# EAGLE library part MC33772B (library MC33772B)
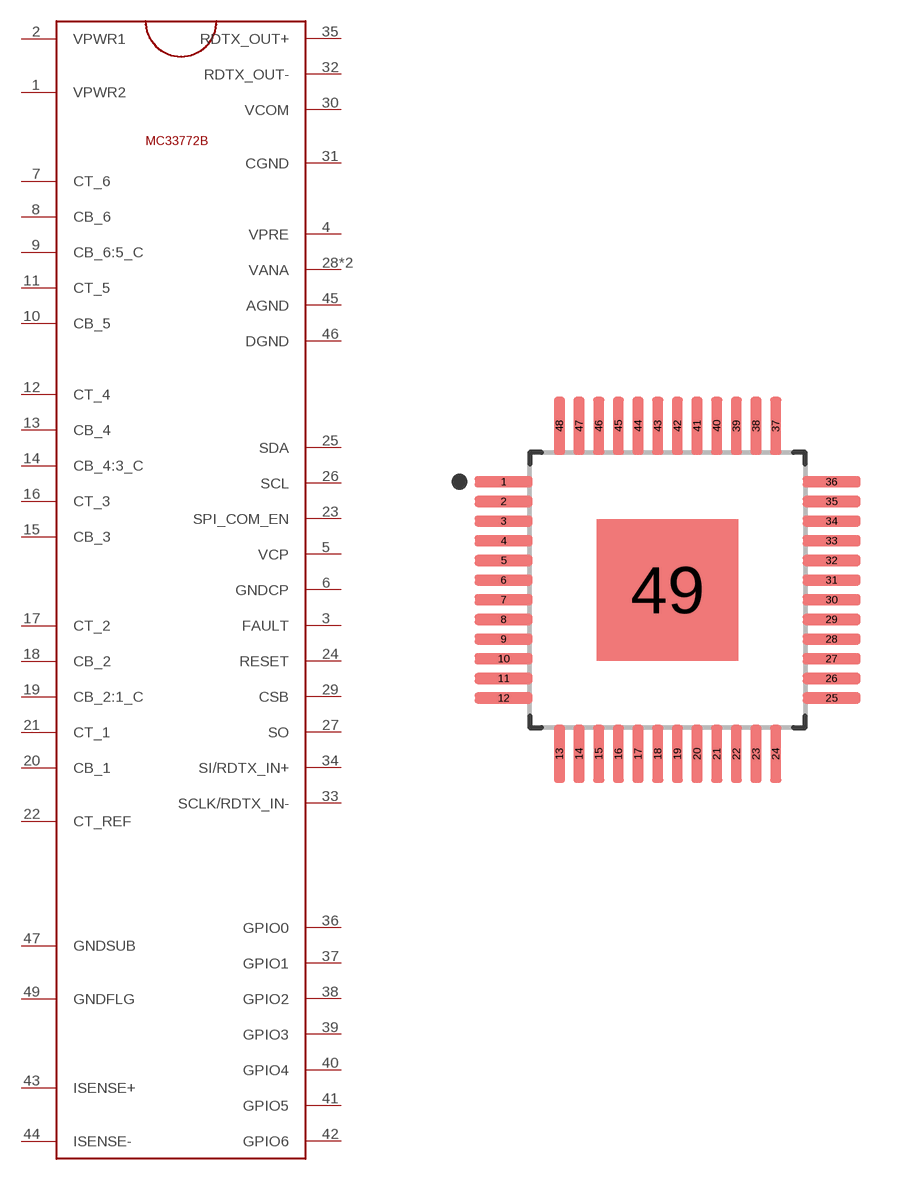
[diagram p0: symbol with the pads of QFP48P50_900X900X160L60X22N; footprint QFP48P50_900X900X160L60X22N]

Designator prefix -

## MC33772BSMD  [QFP48P50_900X900X160L60X22N]
1  VPWR2
2  VPWR1
3  FAULT
4  VPRE
5  VCP
6  GNDCP
7  CT_6
8  CB_6
9  CB_6:5_C
10  CB_5
11  CT_5
12  CT_4
13  CB_4
14  CB_4:3_C
15  CB_3
16  CT_3
17  CT_2
18  CB_2
19  CB_2:1_C
20  CB_1
21  CT_1
22  CT_REF
23  SPI_COM_EN
24  RESET
25  SDA
26  SCL
27  SO
28  VANA
29  CSB
30  VCOM
31  CGND
32  RDTX_OUT-
33  SCLK/RDTX_IN-
34  SI/RDTX_IN+
35  RDTX_OUT+
36  GPIO0
37  GPIO1
38  GPIO2
39  GPIO3
40  GPIO4
41  GPIO5
42  GPIO6
43  ISENSE+
44  ISENSE-
45  AGND
46  DGND
47  GNDSUB
48  VANA
49  GNDFLG

## Footprint QFP48P50_900X900X160L60X22N (pad centres in mm)
smd 1.47 x 0.28: 1 -4.17,2.75; 2 -4.17,2.25; 3 -4.17,1.75; 4 -4.17,1.25; 5 -4.17,0.75; 6 -4.17,0.25; 7 -4.17,-0.25; 8 -4.17,-0.75; 9 -4.17,-1.25; 10 -4.17,-1.75; 11 -4.17,-2.25; 12 -4.17,-2.75; 25 4.17,-2.75; 26 4.17,-2.25; 27 4.17,-1.75; 28 4.17,-1.25; 29 4.17,-0.75; 30 4.17,-0.25; 31 4.17,0.25; 32 4.17,0.75; 33 4.17,1.25; 34 4.17,1.75; 35 4.17,2.25; 36 4.17,2.75
smd 0.28 x 1.47: 13 -2.75,-4.17; 14 -2.25,-4.17; 15 -1.75,-4.17; 16 -1.25,-4.17; 17 -0.75,-4.17; 18 -0.25,-4.17; 19 0.25,-4.17; 20 0.75,-4.17; 21 1.25,-4.17; 22 1.75,-4.17; 23 2.25,-4.17; 24 2.75,-4.17; 37 2.75,4.17; 38 2.25,4.17; 39 1.75,4.17; 40 1.25,4.17; 41 0.75,4.17; 42 0.25,4.17; 43 -0.25,4.17; 44 -0.75,4.17; 45 -1.25,4.17; 46 -1.75,4.17; 47 -2.25,4.17; 48 -2.75,4.17
smd 3.6 x 3.6: 49 0,0